# Altium footprint library WT931.PcbLib: 1 footprints
Each footprint in its own frame and in the unit in brackets; x right, y up, seen from the top. Pads: shape width x height; smd on the part's side, far side on the other; paste and mask are expansions set on the pad; w line width, h text height; cw(c..) or ccw(c..) is an arc to the next point about the centre after c.
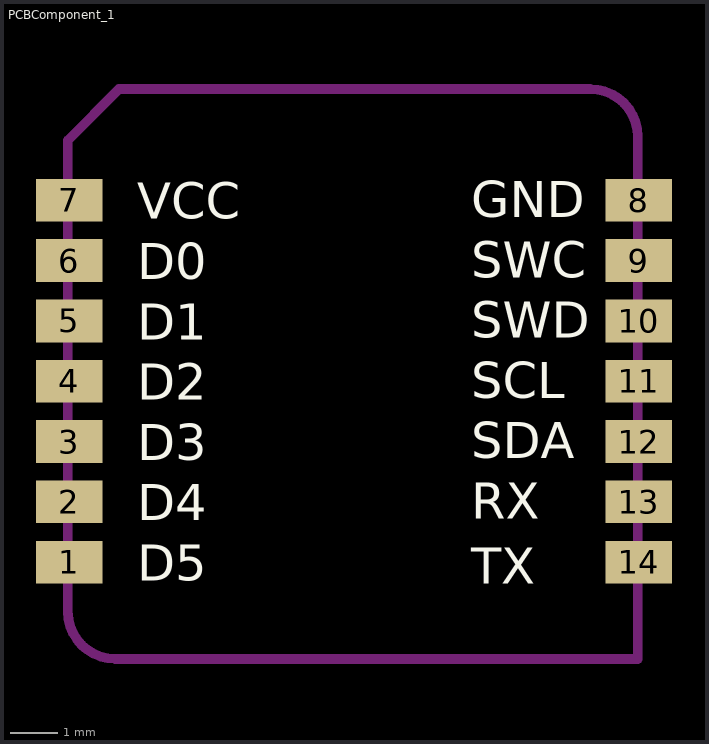
[diagram p0: the footprint, top view; thin cyan lines are the x and y axes]

## PCBComponent_1 [mm]
pads (14):
  rect 1.4x0.9 smd: 1(12.812,6.246) 2(12.812,7.516) 3(12.812,8.786) 4(12.812,10.056) 5(12.812,11.326) 6(12.812,12.596) 7(12.812,13.866) 8(24.812,13.866) 9(24.812,12.596) 10(24.812,11.326) 11(24.812,10.056) 12(24.812,8.786) 13(24.812,7.516) 14(24.812,6.246)
Top Overlay:
  text "VCC" at 14.249,13.475 h0.76
  text "D0" at 14.249,12.205 h0.76
  text "D1" at 14.249,10.935 h0.76
  text "D2" at 14.249,9.665 h0.76
  text "D3" at 14.249,8.395 h0.76
  text "D4" at 14.249,7.125 h0.76
  text "D5" at 14.249,5.855 h0.76
  text "GND" at 21.28,13.51 h0.76
  text "SWC" at 21.28,12.24 h0.76
  text "SWD" at 21.28,10.97 h0.76
  text "SCL" at 21.28,9.7 h0.76
  text "SDA" at 21.28,8.43 h0.76
  text "RX" at 21.28,7.16 h0.76
  text "TX" at 21.28,5.794 h0.76
Keep-Out Layer:
  lines w0.203: 12.786,5.209 ccw(c13.786,5.209) 13.786,4.209 24.786,4.209 24.786,15.209 ccw(c23.786,15.209) 23.786,16.209 13.864,16.209 12.786,15.131 12.786,5.209